# Altium schematic symbol library Components - 25.03.23 - 19.05.SchLib: 1 symbol
Pins are listed as number, name and electrical type; pins without a type are passive.

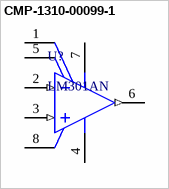
[diagram p0: symbol CMP-1310-00099-1]

## CMP-1310-00099-1
designator U?, comment LM301AN
Non Compensated Single Operational Amplifier, 0 to 70 degC, 8-Pin PDIP, Tube; Manufacturer: On Semiconductor; ComponentLink1Description: Manufacturer URL; DatasheetVersion: Rev. 11; Packing: Tube; RoHS: FALSE; ComponentLink1URL: http://www.onsemi.com/; ComponentLink3URL: http://www.onsemi.com/pub_link/Collateral/LM211-D.PDF; PartNumber: LM301AN; ComponentLink2Description: Datasheet; ComponentLink2URL: http://www.onsemi.cn/pub_link/Collateral/LM301A-D.PDF; PackageDescription: 8-Pin Plastic Dual-In Line Package, Body 9.52 x 6.605 mm, Pitch 2.54 mm; PackageVersion: Rev. M, 04/2010; ComponentLink3Description: Package Specification; PackageReference: PDIP-8-626-05; Mounting Technology: Through Hole
footprint ONSC-PDIP-8-626-05_M (DIP, 8-Leads, Body 10x7.1mm, Pitch 2.54mm)
pins: 1 BALANCE, 2 IN- (in), 3 IN+ (in), 4 VEE (power), 5 BALANCE, 6 OUT (out), 7 VCC (power), 8 COMPENSATION